# EAGLE library part SPARKFUN_OPAMP-DUAL (library PulseOx-v1)
Operational Amplifier
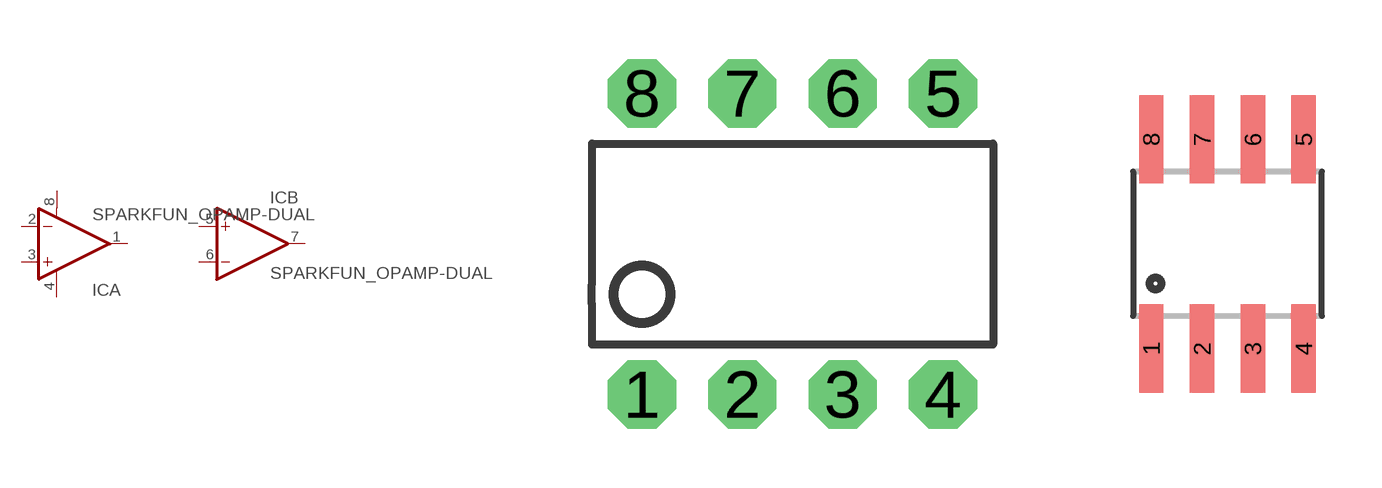
[diagram p6: symbol with the pads of SPARKFUN_DIP08; footprints SPARKFUN_DIP08, SPARKFUN_SO08]

Designator prefix IC; gates A=SPARKFUN_OP-AMP+- B=SPARKFUN_OP-AMP

## SPARKFUN_OPAMP-DUAL, SPARKFUN_OPAMP-DUALDIP  [SPARKFUN_DIP08]
1  A:OUT  out
2  A:-IN  in
3  A:+IN  in
4  A:V-  pwr
5  B:+IN  in
6  B:-IN  in
7  B:OUT  out
8  A:V+  pwr

## SPARKFUN_OPAMP-DUALU  [SPARKFUN_SO08]
Pads as for SPARKFUN_DIP08

## Footprint SPARKFUN_DIP08 (pad centres in mm)
Dual In Line
drill 0.813 pad 1.727 octagon: 1 -3.81,-3.81; 2 -1.27,-3.81; 3 1.27,-3.81; 4 3.81,-3.81; 5 3.81,3.81; 6 1.27,3.81; 7 -1.27,3.81; 8 -3.81,3.81

## Footprint SPARKFUN_SO08 (pad centres in mm)
Small Outline Package Fits JEDEC packages (narrow SOIC-8)
smd 0.61 x 2.21: 1 -1.905,-2.616; 2 -0.635,-2.616; 3 0.635,-2.616; 4 1.905,-2.616; 5 1.905,2.616; 6 0.635,2.616; 7 -0.635,2.616; 8 -1.905,2.616